# Altium footprint library DIO_SS26FL.PcbLib: 1 footprints
Each footprint in its own frame and in the unit in brackets; x right, y up, seen from the top. Pads: shape width x height; smd on the part's side, far side on the other; paste and mask are expansions set on the pad; w line width, h text height; cw(c..) or ccw(c..) is an arc to the next point about the centre after c.
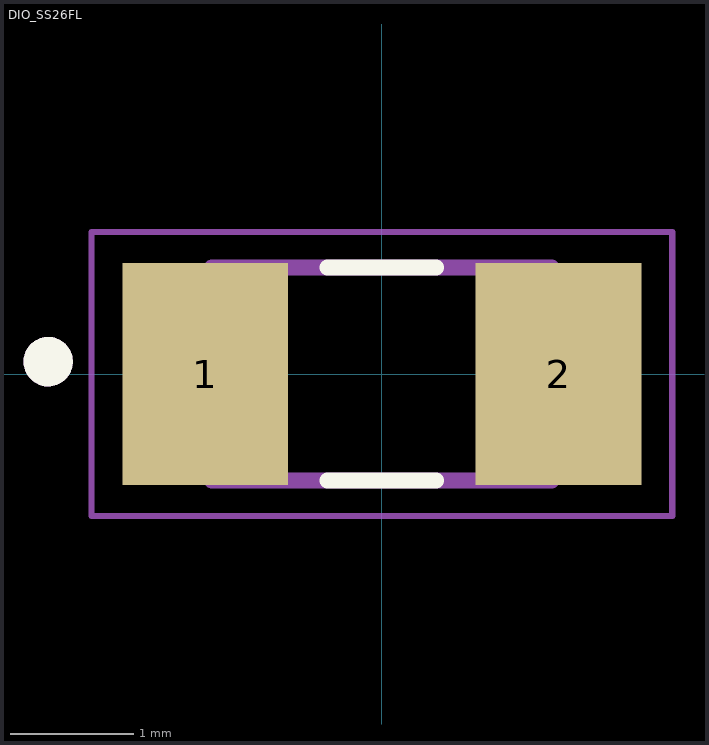
[diagram p0: the footprint, top view; thin cyan lines are the x and y axes]

## DIO_SS26FL [mm]
pads (2):
  rect 1.34x1.8 smd: 1(-1.43,0) 2(1.43,0)
Top Overlay:
  circle w0.2: c-2.7,0.1 r0.1
  lines w0.127: -0.44,-0.863 0.44,-0.863 ; -0.44,0.863 0.44,0.863
Mechanical 13:
  circle w0.2: c-2.7,0.1 r0.1
  lines w0.127: -1.375,-0.863 1.375,-0.863 1.375,0.863 -1.375,0.863 -1.375,-0.863
Mechanical 15:
  lines w0.05: -2.35,-1.15 -2.35,1.15 2.35,1.15 2.35,-1.15 -2.35,-1.15
3D body "SOD-123_ONS.step": height 1.35, standoff 0, extent -1.93,-0.902 1.93,0.902